# EAGLE library part TRI-INVERTER (library Passives)
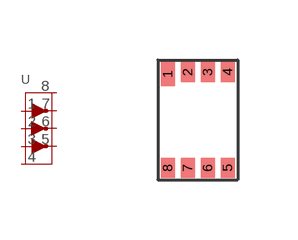
[diagram p0: symbol with the pads of SOT996-2; footprint SOT996-2]

Designator prefix U

## TRI-INVERTER  [SOT996-2]
1  1
2  2
3  3
4  4
5  5
6  6
7  7
8  8

## Footprint SOT996-2 (pad centres in mm)
smd 0.35 x 0.6: 1 -0.75,1.15
smd 0.35 x 0.5: 2 -0.25,1.2; 3 0.25,1.2; 4 0.75,1.2; 5 0.75,-1.2; 6 0.25,-1.2; 7 -0.25,-1.2; 8 -0.75,-1.2